# Altium schematic symbol library TPS61169.Schlib: 1 symbol
Pins are listed as number, name and electrical type; pins without a type are passive.

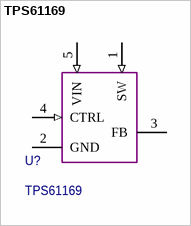
[diagram p0: symbol TPS61169]

## TPS61169
designator U?
pins: 1 SW (in), 2 GND (power), 3 FB, 4 CTRL (in), 5 VIN (in)